# Altium footprint library myPCB.PcbLib: 96 footprints (part 6 of 6)
Each footprint in its own frame and in the unit in brackets; x right, y up, seen from the top. Pads: shape width x height; smd on the part's side, far side on the other; paste and mask are expansions set on the pad; w line width, h text height; cw(c..) or ccw(c..) is an arc to the next point about the centre after c.
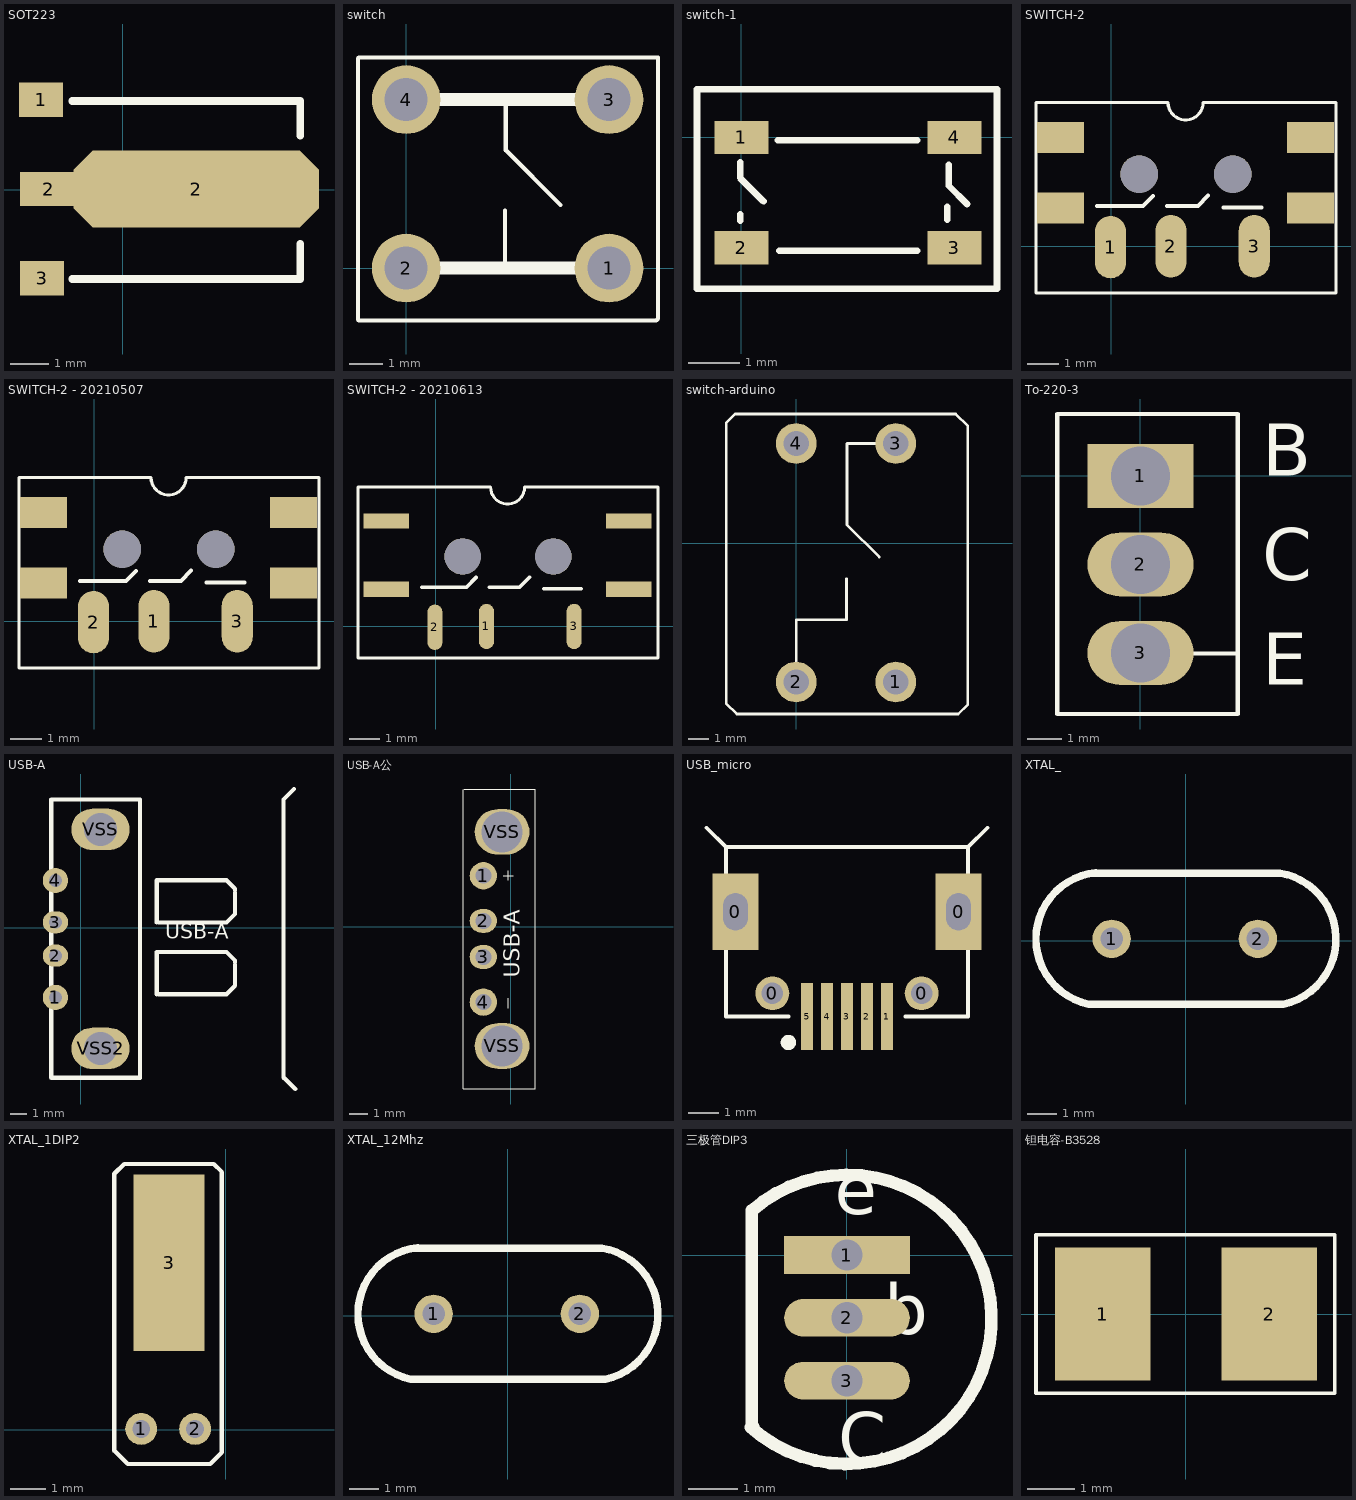
[diagram p5: the footprints below, top view; thin cyan lines are the x and y axes]

## SOT223 [mil] "SOT223, 3-Leads, 塑料封装"
height 62.99
pads (4):
  rect 45x35 smd: 1(-83,92) 3(-82,-90)
  rect 59.06x35 smd: 2(-75.13,1)
  oct 250x78.74 smd: 2(75,1)
Top Overlay:
  lines w7.87: -51.18,-90.55 181,-90.55 181,-55.12 ; -51.18,90.55 181,90.55 181,55.12
Mechanical 13:
  lines w3.94: -51.18,-90.55 51.18,-90.55 ; -51.18,90.55 51.18,90.55
Mechanical 15:
  lines w3.94: -19.69,0 19.69,0 ; 0,-19.69 0,19.69
3D body "AMS1117.STEP": height 72.83, standoff -0.39, extent -98.78,-126.91 176.78,129

## switch [mil] "直插微动开关，采用对角线焊接就没错"
height 354.33
pads (4):
  round 80 hole 50: 1(236,0) 2(0,0) 3(236,196) 4(0,196)
Top Overlay:
  lines w5: 115,1 115,67 ; 116,193 116,137 179.5,73.5 ; -56,-60 -56,244 -55,245 293,245 293,-59 291,-61 -55,-61 -56,-60
  lines w10: 50,0 250,0
  lines w15: 0,0 250,0 ; 0,196 245.08,196

## switch-1 [mm] "贴片微动开关，采用对角线焊接就没错.https://item.taobao.com/item.htm?spm=a230r.1.14.43.3354381by3NSil&id=622445763321&ns=1&abbucket=2#detail"
pads (4):
  rect 1.05x0.65 smd: 1(0,0) 2(0,-2.15) 3(4.15,-2.15) 4(4.15,0)
Top Overlay:
  lines w0.127: -0.025,-1.626 -0.025,-1.499 ; -0.025,-0.483 -0.025,-0.787 0.432,-1.245 ; 0.711,-0.051 3.429,-0.051 ; 0.737,-2.21 3.429,-2.21 ; 4.013,-1.6 4.013,-1.346 ; 4.039,-0.533 4.039,-0.762 4.039,-0.94 4.394,-1.295 ; -0.864,-2.946 -0.864,0.94 4.978,0.94 4.978,-2.946 -0.864,-2.946
3D body "微动.STEP": height 2.5, standoff 0, extent -0.117,-2.691 4.283,0.709

## SWITCH-2 [mm]
pads (9):
  oval 1x2 smd: 1(-0.025,-0.025) 2(1.905,0) 3(4.572,0)
  rect 1.5x1 smd: ""(-1.626,1.23) ""(-1.626,3.48) ""(6.374,1.23) ""(6.374,3.48)
  round 1.2 hole 1.2 unplated: ""(0.889,2.311) ""(3.886,2.311)
Top Overlay:
  lines w0.1: -2.413,-1.499 -2.413,4.605 1.812,4.605 ccw(c2.374,4.605) 2.937,4.605 7.188,4.605 7.188,-1.499 -2.413,-1.499
  lines w0.127: -0.457,1.295 0.686,1.295 1.016,1.295 1.333,1.613 ; 1.778,1.295 2.565,1.295 ; 2.489,1.295 2.743,1.295 ; 2.769,1.295 3.099,1.626 ; 3.581,1.245 4.801,1.245
3D body "switch_2.STEP": height 1.5, standoff 0, extent -1.612,-0.038 6.388,5.261

## SWITCH-2 - 20210507 [mm]
pads (9):
  oval 1x2 smd: 1(1.905,0) 2(-0.025,-0.025) 3(4.572,0)
  rect 1.5x1 smd: ""(-1.626,1.23) ""(-1.626,3.48) ""(6.374,1.23) ""(6.374,3.48)
  round 1.2 hole 1.2 unplated: ""(0.889,2.311) ""(3.886,2.311)
Top Overlay:
  lines w0.1: -2.413,-1.499 7.188,-1.499 7.188,4.605 2.937,4.605 cw(c2.374,4.605) 1.812,4.605 -2.413,4.605 -2.413,-1.499
  lines w0.127: -0.457,1.295 0.686,1.295 1.016,1.295 1.333,1.613 ; 1.778,1.295 2.565,1.295 ; 2.489,1.295 2.743,1.295 ; 2.769,1.295 3.099,1.626 ; 3.581,1.245 4.801,1.245
3D body "switch_2.STEP": height 1.5, standoff 0, extent -1.612,-0.038 6.388,5.261

## SWITCH-2 - 20210613 [mm]
pads (9):
  oval 0.5x1.5 smd: 1(1.676,0) 2(-0.025,-0.025) 3(4.572,0)
  rect 1.5x0.5 smd: ""(-1.626,1.23) ""(-1.626,3.48) ""(6.374,1.23) ""(6.374,3.48)
  round 1.2 hole 1.2 unplated: ""(0.889,2.311) ""(3.886,2.311)
Top Overlay:
  lines w0.1: -2.565,-1.041 7.341,-1.041 7.341,4.605 2.937,4.605 cw(c2.374,4.605) 1.812,4.605 -2.565,4.605 -2.565,-1.041
  lines w0.127: -0.457,1.295 0.686,1.295 1.016,1.295 1.333,1.613 ; 1.778,1.295 2.565,1.295 ; 2.489,1.295 2.743,1.295 ; 2.769,1.295 3.099,1.626 ; 3.581,1.245 4.801,1.245
3D body "switch_2.STEP": height 1.5, standoff 0, extent -1.612,-0.089 6.388,5.211

## switch-arduino [mil] "直插微动开关，采用对角线焊接就没错"
height 354.33
pads (4):
  round 80 hole 50: 1(196,-273) 2(0,-273) 3(196,196) 4(0,196)
Top Overlay:
  lines w5: 0,-273 0,-193 0,-153 ; 0,-151 99,-151 99,-70 ; 100,195 100,36 163.5,-27.5 ; 100,196 196,196 196,213 ; -137.8,-314.96 -137.8,236.22 -120.02,254 313.74,254 337.74,230 337.74,-317 318.74,-336 -116.76,-336 -137.8,-314.96

## To-220-3 [mil] "孔直径为67mil"
pads (3):
  rect 120x72 hole 67: 1(0,0)
  oval 120x72 hole 67: 2(0,-100) 3(0,-200)
Top Overlay:
  lines w5: 0,-200 110,-201 ; 110,-201 110,-269 -94,-269 -94,70 110,70 110,-201
  text "B" at 137.8,0 h59.06
  text "C" at 137.8,-118.11 h59.06
  text "E" at 137.8,-236.22 h59.06

## USB-A [mil] "直插A型母头USB数据口"
height 354.33
pads (6):
  round 60 hole 30: 1(-60,-165) 4(-60,112)
  oval 60x52.13 hole 30: 2(-60,-66) 3(-60,13)
  oval 137.79x98.42 hole 78.74: VSS(46.69,232.87) VSS2(46.69,-285.87)
Top Overlay:
  lines w10: 139,-355.31 -70,-355.31 -70,304.13 140,304.13 140,-356 ; 180,-157.4 180,-57.4 345,-57.4 365,-77.4 365,-82.4 ; 180,12.6 180,112.6 345,112.6 365,92.6 365,87.6 ; 185,-157.4 345,-157.4 365,-137.4 365,-87.4 ; 185,12.6 345,12.6 365,32.6 365,82.6 ; 480,259.84 480,304.13 480.31,304.13 504.92,328.74 ; 480,275 480,-355.31 480.31,-355.31 481.3,-355.31 507.87,-381.89
  text "USB-A" at 200,-37.4 h60

## USB-A公 [mil] "直插片A型公头USB数据口"
height 354.33
pads (6):
  round 60 hole 35: 1(-60,112) 4(-60,-165)
  oval 60x52.13 hole 35: 2(-60,13) 3(-60,-66)
  oval 120x100 hole 90: VSS(-19,-261) VSS(-19,208)
Top Overlay:
  lines w2: -60,-261 -19,-261 ; -16,112 6,112 ; -5,-178 -5,-157 ; -5,102 -5,123 ; -104,-355.31 54,-355.31 54,302 -101.87,302 -104,299.87 -104,-355.31
  text "USB-A" at 32,-112 h60

## USB_micro [mm]
pads (9):
  rect 1.5x2.5 hole 0.8 slot 1.2 at 90 deg: 0(35.237,23.421) 0(42.487,23.421)
  round 1.1 hole 0.7: 0(36.437,20.771) 0(41.287,20.771)
  rect 0.381x2.184 smd: 1(40.162,20.013) 2(39.512,20.013) 3(38.862,20.013) 4(38.212,20.013) 5(37.562,20.013)
Top Overlay:
  circle w0.25: c36.957,19.173 r0.125
  lines w0.127: 34.295,26.151 34.925,25.521 34.925,24.505 ; 34.925,20.013 34.925,22.219 ; 34.962,20.013 36.957,20.013 ; 34.962,25.521 42.762,25.521 ; 40.767,20.013 42.762,20.013 ; 42.799,20.013 42.799,22.219 ; 42.799,24.505 42.799,25.521 43.429,26.151

## XTAL_ [mm] "210628"
height 9
pads (2):
  round 1.3 hole 0.762: 1(-2.517,0.055) 2(2.436,0.055)
Top Overlay:
  lines w0.254: -3.175,2.286 3.168,2.286 ; -3.05,2.302 ccw(c-2.818,0.051) -3.302,-2.159 3.302,-2.159 ccw(c2.819,0.051) 3.175,2.286

## XTAL_1DIP2 [mm] "2*6mm 圆柱晶体"
height 9
pads (3):
  round 0.9 hole 0.5: 1(-2.388,0.025) 2(-0.864,0.025)
  rect 2x5 smd: 3(-1.6,4.724)
Top Overlay:
  lines w0.127: -3.15,-0.584 -3.15,7.239 -2.87,7.518 -0.33,7.518 -0.102,7.29 -0.102,-0.635 -0.432,-0.965 -2.769,-0.965 -3.15,-0.584
3D body "osc-圆柱-32_768K.STEP": height 2, standoff 0, extent -2.61,-0.063 -0.61,7.276

## XTAL_12Mhz [mm]
height 9
pads (2):
  round 1.3 hole 0.762: 1(-2.517,0.055) 2(2.436,0.055)
Top Overlay:
  lines w0.254: -3.175,2.286 3.168,2.286 ; -3.05,2.302 ccw(c-2.818,0.051) -3.302,-2.159 3.302,-2.159 ccw(c2.819,0.051) 3.175,2.286

## 三极管DIP3 [mil]
pads (3):
  rect 100x30 hole 25: 1(0,0)
  oval 100x30 hole 25: 2(0,-50) 3(0,-100)
Top Overlay:
  lines w10: -76.77,-137.06 ccw(c0.01,-51.25) -75.79,35.43 -75.79,-135.83 -74.8,-136.81
  text "b" at 29.53,-62.99 h40
  text "C" at -6.89,-165.35 h40
  text "e" at -9.84,32.48 h40

## 钽电容-B3528 [mm]
pads (2):
  rect 2x2.8 smd: 1(-1.75,0) 2(1.75,0)
Top Overlay:
  lines w0.076: -3.15,-1.667 3.124,-1.667 3.124,1.667 -3.15,1.667 -3.15,0.7 -3.15,-1.667